# Altium schematic symbol library ES1J-600V1A35nS.SchLib: 1 symbol
Pins are listed as number, name and electrical type; pins without a type are passive.

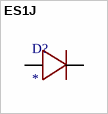
[diagram p0: symbol ES1J]

## ES1J
designator D?
footprint ES1A (DO-214AC)
pins: 1, 2